# Altium footprint library SRN6045TA.PcbLib: 1 footprints
Each footprint in its own frame and in the unit in brackets; x right, y up, seen from the top. Pads: shape width x height; smd on the part's side, far side on the other; paste and mask are expansions set on the pad; w line width, h text height; cw(c..) or ccw(c..) is an arc to the next point about the centre after c.
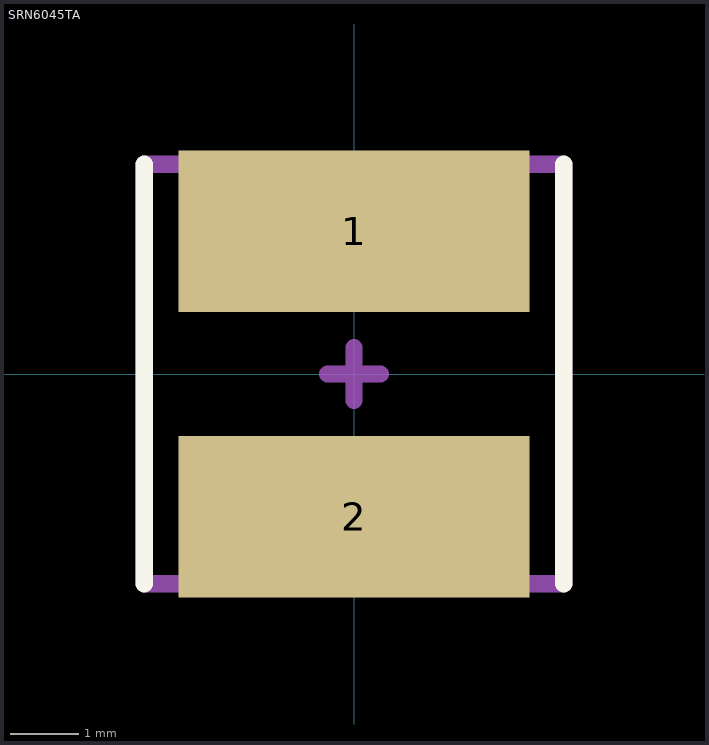
[diagram p0: the footprint, top view; thin cyan lines are the x and y axes]

## SRN6045TA [mm]
pads (2):
  rect 5.1x2.35 smd mask+0.051: 1(0,2.075) 2(0,-2.075)
Top Overlay:
  lines w0.254: -3.048,-3.048 -3.048,3.048 ; 3.048,-3.048 3.048,3.048
Mechanical 13 (Mech13):
  lines w0.254: -3.048,-3.048 3.048,-3.048 3.048,3.048 -3.048,3.048 -3.048,-3.048
Mechanical 15:
  lines w0.254: -0.381,0 0,0 ; 0,-0.381 0,0 ; 0,0.381 0,0 ; 0.381,0 0,0
3D body "SRN6045TA.stp": height 3.95, standoff -0.01, extent -2.997,-2.997 2.997,2.997